# EAGLE library part J3011G21DNL (library PP_Connectors)
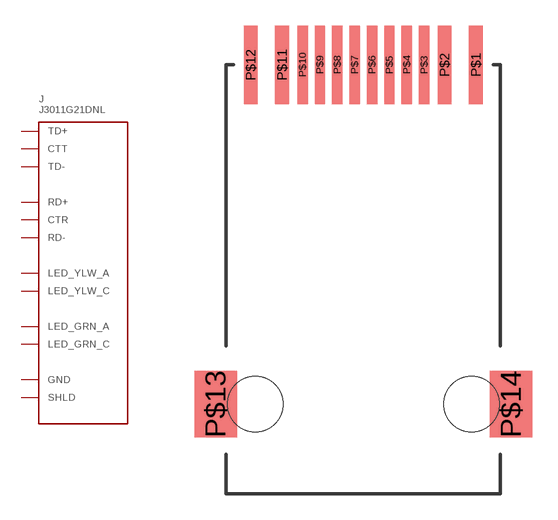
[diagram p31: symbol with the pads of J3011G21DNL; footprint J3011G21DNL]

Designator prefix J

## J3011G21DNL  [J3011G21DNL]
P$1  LED_YLW_A
P$2  LED_YLW_C
P$3  TD+
P$4  TD-
P$5  CTT
P$6  CTR
P$7  RD+
P$8  RD-
P$10  GND
P$11  LED_GRN_C
P$12  LED_GRN_A
P$13  SHLD
P$14  SHLD

## Footprint J3011G21DNL (pad centres in mm)
smd 0.81 x 4.6: P$1 6.61,0; P$2 4.77,0; P$11 -4.77,0; P$12 -6.61,0
smd 0.61 x 4.6: P$3 3.57,0; P$4 2.55,0; P$5 1.53,0; P$6 0.51,0; P$7 -0.51,0; P$8 -1.53,0; P$9 -2.55,0; P$10 -3.57,0
smd 2.5 x 3.9: P$13 -8.67,-19.92; P$14 8.67,-19.92
hole 3.25 at -6.35,-19.92
hole 3.25 at 6.35,-19.92